# EAGLE library part FLASH (library FlashMem)
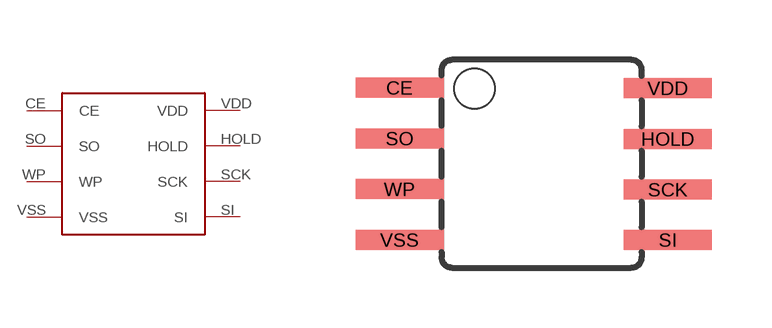
[diagram p0: symbol with the pads of SOIC8; footprint SOIC8]

Designator prefix -

## FLASH  [SOIC8]
CE  CE
HOLD  HOLD
SCK  SCK
SI  SI
SO  SO
VDD  VDD
VSS  VSS
WP  WP

## Footprint SOIC8 (pad centres in mm)
Wide Plastic Gull Wing Small Outline Package
smd 2.2 x 0.5: CE -3.554,1.905; HOLD 3.154,0.625; SCK 3.154,-0.645; SI 3.154,-1.905; SO -3.554,0.635; VDD 3.154,1.895; VSS -3.554,-1.905; WP -3.554,-0.635